# EAGLE library part SD-MOLEX-503182-1853 (library ubo_PQ60)
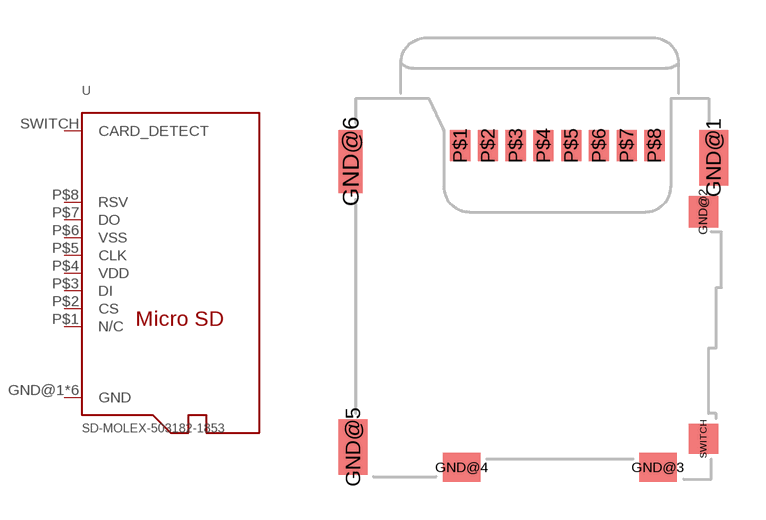
[diagram p31: symbol with the pads of SD-MOLEX-503182-1853; footprint SD-MOLEX-503182-1853]

Designator prefix -

## SD-MOLEX-503182-1853  [SD-MOLEX-503182-1853]
GND@1  GND  sup
GND@2  GND  sup
GND@3  GND  sup
GND@4  GND  sup
GND@5  GND  sup
GND@6  GND  sup
P$1  N/C  sup
P$2  CS  sup
P$3  DI
P$4  VDD
P$5  CLK  in
P$6  VSS  in
P$7  DO  in
P$8  RSV  out
SWITCH  CARD_DETECT  pas

## Footprint SD-MOLEX-503182-1853 (pad centres in mm)
smd 1.15 x 2.2: GND@1 6.195,5.15; GND@5 -8.095,-6.33
smd 1.16 x 1.25: GND@2 5.79,3
smd 1.5 x 1.15: GND@3 3.99,-7.125; GND@4 -3.79,-7.125
smd 0.95 x 2.5: GND@6 -8.195,5
smd 0.8 x 1.24: P$1 -3.85,5.63; P$2 -2.75,5.63; P$3 -1.65,5.63; P$4 -0.55,5.63; P$5 0.55,5.63; P$6 1.65,5.63; P$7 2.75,5.63; P$8 3.85,5.63
smd 1.16 x 1.2: SWITCH 5.79,-6